# Altium integrated library TS02-66-170-BK-260-SCR-D.IntLib: 1 symbol
Pins are listed as number, name and electrical type; pins without a type are passive.

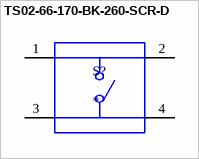
[diagram p0: symbol TS02-66-170-BK-260-SCR-D]

## TS02-66-170-BK-260-SCR-D
designator S?
6 x 6 mm, 17 mm Actuator Height, 260 gf, Black, Short Crimped, Through Hole, SPST, Tactile Switch; MP: TS02-66-170-BK-260-SCR-D; MF: CUI Devices; Price: None; Availability: In Stock; CUI_purchase_URL: https://www.cuidevices.com/product/switches/tactile-switches/ts02-series?utm_source=snapeda.com&utm_medium=referral&utm_campaign=snapedaBOM; Value: *; Purchase-URL: https://pricing.snapeda.com/search/part/TS02-66-170-BK-260-SCR-D/?ref=eda; Package: None
footprint SW_TS02-66-170-BK-260-SCR-D
pins: 1, 2, 3, 4